# Altium integrated library NSC Interface.IntLib: 481 symbols (part 15 of 16)
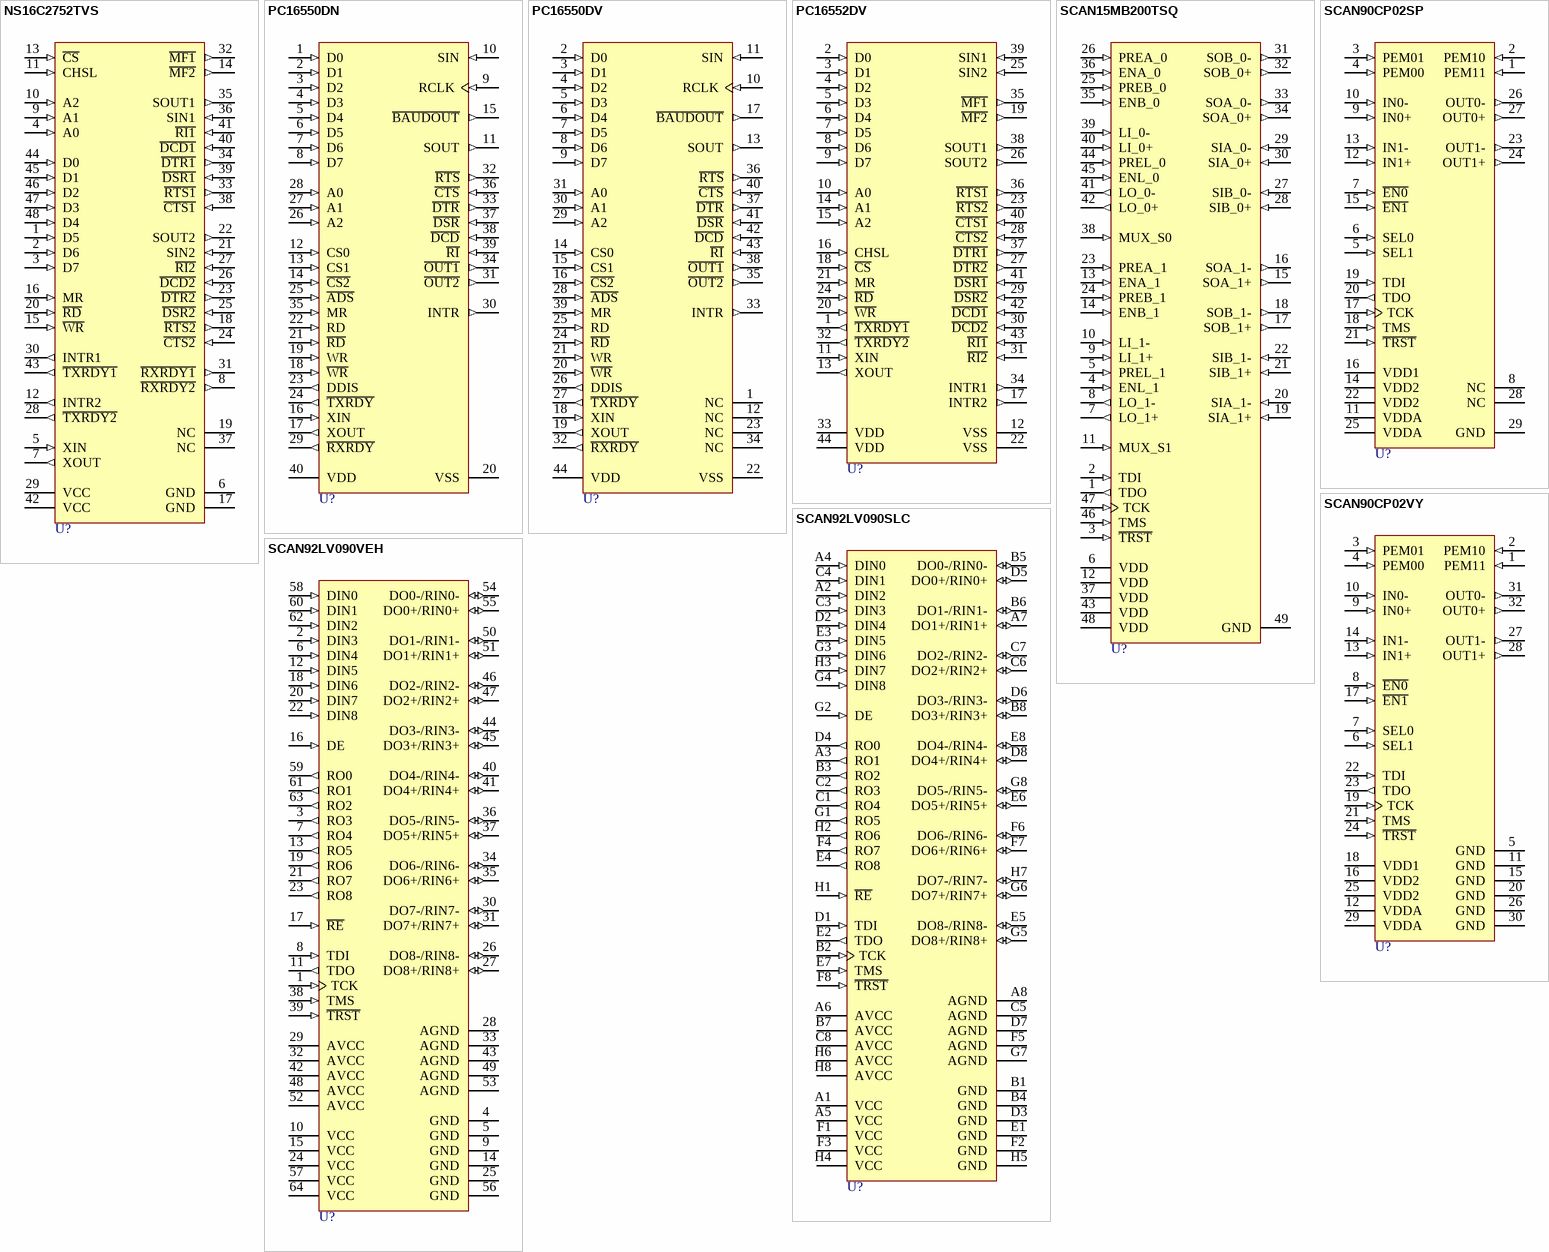
[diagram p54: symbols NS16C2752TVS to SCAN92LV090VEH]

## NS16C2752TVS
designator U?
Dual UART with 16-byte/64-byte FIFO's and up to 5 Mbit/s Data Rate; PartNumber: NS16C2752TVS; Manufacturer: National Semiconductor; CompType: Interface IC; PackageTopMarking: NSUZXYTT*NS16C2*752TVS; Published: 4-Dec-2008; DatasheetVersion: Dec-2006; PackageVersion: revA, Apr-2000; PackageReference: VBC48A; Publisher: Altium Limited; PackageDescription: TQFP, Jedec Metric, 7 x 7 x 1mm, 48 Lead, 0.5mm Pitch; RoHS: O; PinCount: 48; Code_JEDEC: MS-026-ABC; ComponentLink1Description: NS16C2752 Datasheet; ComponentLink1URL: http://www.national.com/ds/NS/NS16C2752.pdf; ComponentLink2Description: NS16C2752 Web Page; ComponentLink2URL: http://www.national.com/pf/NS/NS16C2752.html; ComponentLink3Description: VBC48A Package Page; ComponentLink3URL: http://www.national.com/packaging/folders/vbc48a.html
footprint VBC48A_N (Thin QFP, 48-Leads, Body 7x7mm, Pitch 0.5mm, IPC Medium Density)
footprint VBC48A_L (Thin QFP, 48-Leads, Body 7x7mm, Pitch 0.5mm, IPC High Density)
footprint VBC48A_M (Thin QFP, 48-Leads, Body 7x7mm, Pitch 0.5mm, IPC Low Density)
pins: 1 D5 (in), 2 D6 (in), 3 D7 (in), 4 A0 (in), 5 XIN (in), 6 GND (power), 7 XOUT (out), 8 ~{RXRDY2} (out), 9 A1 (in), 10 A2 (in), 11 CHSL (in), 12 INTR2 (out), 13 ~{CS} (in), 14 ~{MF2} (out), 15 ~{WR} (in), 16 MR (in), 17 GND (power), 18 ~{RTS2} (out), 19 NC, 20 ~{RD} (in), 21 SIN2 (in), 22 SOUT2 (out), 23 ~{DTR2} (out), 24 ~{CTS2} (in), 25 ~{DSR2} (in), 26 ~{DCD2} (in), 27 ~{RI2} (in), 28 ~{TXRDY2} (out), 29 VCC (power), 30 INTR1 (out), 31 ~{RXRDY1} (out), 32 ~{MF1} (out), 33 ~{RTS1} (out), 34 ~{DTR1} (out), 35 SOUT1 (out), 36 SIN1 (in), 37 NC, 38 ~{CTS1} (in), 39 ~{DSR1} (in), 40 ~{DCD1} (in), 41 ~{RI1} (in), 42 VCC (power), 43 ~{TXRDY1} (out), 44 D0 (in), 45 D1 (in), 46 D2 (in), 47 D3 (in), 48 D4 (in)

## PC16550DN
designator U?
Universal Asynchronous Receiver/Transmitter with FIFO's; PartNumber: PC16550DN; Manufacturer: National Semiconductor; CompType: Interface IC; PackageTopMarking: NSUZXYYTTE#*PC16550DN*PATENTED; Published: 4-Dec-2008; DatasheetVersion: Jun-1995; PackageVersion: revE, Nov-1983; PackageReference: N40A; Publisher: Altium Limited; PackageDescription: 40 Lead Molded Dip (N); RoHS: Y; PinCount: 40; DigiKeyPartNumber: PC16550DN-ND; ComponentLink1Description: PC16550D Datasheet; ComponentLink1URL: http://www.national.com/ds/PC/PC16550D.pdf; ComponentLink2Description: PC16550D Web Page; ComponentLink2URL: http://www.national.com/pf/PC/PC16550D.html; ComponentLink3Description: N40A Package Page; ComponentLink3URL: http://www.national.com/packaging/folders/n40a.html
footprint N40A (DIP, 40-Leads, Row Spacing 15.24mm, Pitch 2.54mm, Body 52.24x13.97mm)
pins: 1 D0 (in), 2 D1 (in), 3 D2 (in), 4 D3 (in), 5 D4 (in), 6 D5 (in), 7 D6 (in), 8 D7 (in), 9 RCLK (in), 10 SIN (in), 11 SOUT (out), 12 CS0 (in), 13 CS1 (in), 14 ~{CS2} (in), 15 ~{BAUDOUT} (out), 16 XIN (in), 17 XOUT (out), 18 ~{WR} (in), 19 WR (in), 20 VSS (power), 21 ~{RD} (in), 22 RD (in), 23 DDIS (out), 24 ~{TXRDY} (out), 25 ~{ADS} (in), 26 A2 (in), 27 A1 (in), 28 A0 (in), 29 ~{RXRDY} (out), 30 INTR (out), 31 ~{OUT2} (out), 32 ~{RTS} (out), 33 ~{DTR} (out), 34 ~{OUT1} (out), 35 MR (in), 36 ~{CTS} (in), 37 ~{DSR} (in), 38 ~{DCD} (in), 39 ~{RI} (in), 40 VDD (power)

## PC16550DV
designator U?
Universal Asynchronous Receiver/Transmitter with FIFO's; PartNumber: PC16550DV; Manufacturer: National Semiconductor; CompType: Interface IC; PackageTopMarking: NSUZXYYTTE#*PC16550DV*PATENTED; Published: 4-Dec-2008; DatasheetVersion: Jun-1995; PackageVersion: revK, Dec-1993; PackageReference: V44A; Publisher: Altium Limited; PackageDescription: Plastic Chip Carrier, Sq., .050mil Lead Pitch, 44 Lead; RoHS: O; PinCount: 44; DigiKeyPartNumber: PC16550DV-ND; Code_IPC: PLCC-44; ComponentLink1Description: PC16550D Datasheet; ComponentLink1URL: http://www.national.com/ds/PC/PC16550D.pdf; ComponentLink2Description: PC16550D Web Page; ComponentLink2URL: http://www.national.com/pf/PC/PC16550D.html; ComponentLink3Description: V44A Package Page; ComponentLink3URL: http://www.national.com/packaging/folders/v44a.html
footprint V44A_N (Leaded Chip Carrier, 44-Leads, Body 16.6x16.6mm, Pitch 1.27mm, IPC Medium Density)
footprint V44A_L (Leaded Chip Carrier, 44-Leads, Body 16.6x16.6mm, Pitch 1.27mm, IPC High Density)
footprint V44A_M (Leaded Chip Carrier, 44-Leads, Body 16.6x16.6mm, Pitch 1.27mm, IPC Low Density)
pins: 1 NC, 2 D0 (in), 3 D1 (in), 4 D2 (in), 5 D3 (in), 6 D4 (in), 7 D5 (in), 8 D6 (in), 9 D7 (in), 10 RCLK (in), 11 SIN (in), 12 NC, 13 SOUT (out), 14 CS0 (in), 15 CS1 (in), 16 ~{CS2} (in), 17 ~{BAUDOUT} (out), 18 XIN (in), 19 XOUT (out), 20 ~{WR} (in), 21 WR (in), 22 VSS (power), 23 NC, 24 ~{RD} (in), 25 RD (in), 26 DDIS (out), 27 ~{TXRDY} (out), 28 ~{ADS} (in), 29 A2 (in), 30 A1 (in), 31 A0 (in), 32 ~{RXRDY} (out), 33 INTR (out), 34 NC, 35 ~{OUT2} (out), 36 ~{RTS} (out), 37 ~{DTR} (out), 38 ~{OUT1} (out), 39 MR (in), 40 ~{CTS} (in), 41 ~{DSR} (in), 42 ~{DCD} (in), 43 ~{RI} (in), 44 VDD (power)

## PC16552DV
designator U?
Dual Universal Asynchronous Receiver/Transmitter with FIFO's; PartNumber: PC16552DV; Manufacturer: National Semiconductor; CompType: Interface IC; PackageTopMarking: NSUZXYYTTE#*PC16552DV; Published: 4-Dec-2008; DatasheetVersion: Jun-1995; PackageVersion: revK, Dec-1993; PackageReference: V44A; Publisher: Altium Limited; PackageDescription: Plastic Chip Carrier, Sq., .050mil Lead Pitch, 44 Lead; RoHS: O; PinCount: 44; DigiKeyPartNumber: PC16552DV-ND; Code_IPC: PLCC-44; ComponentLink1Description: PC16552D Datasheet; ComponentLink1URL: http://www.national.com/ds/PC/PC16552D.pdf; ComponentLink2Description: PC16552D Web Page; ComponentLink2URL: http://www.national.com/pf/PC/PC16552D.html; ComponentLink3Description: V44A Package Page; ComponentLink3URL: http://www.national.com/packaging/folders/v44a.html
footprint V44A_N (Leaded Chip Carrier, 44-Leads, Body 16.6x16.6mm, Pitch 1.27mm, IPC Medium Density)
footprint V44A_L (Leaded Chip Carrier, 44-Leads, Body 16.6x16.6mm, Pitch 1.27mm, IPC High Density)
footprint V44A_M (Leaded Chip Carrier, 44-Leads, Body 16.6x16.6mm, Pitch 1.27mm, IPC Low Density)
pins: 1 ~{TXRDY1} (out), 2 D0 (in), 3 D1 (in), 4 D2 (in), 5 D3 (in), 6 D4 (in), 7 D5 (in), 8 D6 (in), 9 D7 (in), 10 A0 (in), 11 XIN (in), 12 VSS (power), 13 XOUT (out), 14 A1 (in), 15 A2 (in), 16 CHSL (in), 17 INTR2 (out), 18 ~{CS} (in), 19 ~{MF2} (out), 20 ~{WR} (in), 21 MR (in), 22 VSS (power), 23 ~{RTS2} (out), 24 ~{RD} (in), 25 SIN2 (in), 26 SOUT2 (out), 27 ~{DTR2} (out), 28 ~{CTS2} (in), 29 ~{DSR2} (in), 30 ~{DCD2} (in), 31 ~{RI2} (in), 32 ~{TXRDY2} (out), 33 VDD (power), 34 INTR1 (out), 35 ~{MF1} (out), 36 ~{RTS1} (out), 37 ~{DTR1} (out), 38 SOUT1 (out), 39 SIN1 (in), 40 ~{CTS1} (in), 41 ~{DSR1} (in), 42 ~{DCD1} (in), 43 ~{RI1} (in), 44 VDD (power)

## SCAN15MB200TSQ
designator U?
Dual 1.5 Gbps 2:1/1:2 LVDS Mux/Buffer with Pre-Emphasis and IEEE 1149.6; PartNumber: SCAN15MB200TSQ; Manufacturer: National Semiconductor; CompType: Interface IC; PackageTopMarking: NS*UZXYTT*15MB200; Published: 4-Dec-2008; DatasheetVersion: May-2006; PackageVersion: revA, May-2003; PackageReference: SQA48A; Publisher: Altium Limited; PackageDescription: LLP, Plastic, Quad, 7 x 7 x 0.8mm Body, 48 Lead, 0.5mm Pitch, No Pullback; RoHS: Y; PinCount: 48; DigiKeyPartNumber: SCAN15MB200TSQTR-ND; Code_JEDEC: MO-220-WKKD-2; ComponentLink1Description: SCAN15MB200 Datasheet; ComponentLink1URL: http://www.national.com/ds/SC/SCAN15MB200.pdf; ComponentLink2Description: SCAN15MB200 Web Page; ComponentLink2URL: http://www.national.com/pf/SC/SCAN15MB200.html; ComponentLink3Description: SQA48A Package Page; ComponentLink3URL: http://www.national.com/packaging/folders/sqa48a.html
footprint SQA48A (QFN, 48-Leads, Body 7x7mm, Pitch 0.5mm, NSC Recommended)
pins: 1 TDO (out), 2 TDI (in), 3 ~{TRST} (in), 4 ENL_1 (in), 5 PREL_1 (in), 6 VDD (power), 7 LO_1+ (out), 8 LO_1- (out), 9 LI_1+ (in), 10 LI_1- (in), 11 MUX_S1 (in), 12 VDD (power), 13 ENA_1 (in), 14 ENB_1 (in), 15 SOA_1+ (out), 16 SOA_1- (out), 17 SOB_1+ (out), 18 SOB_1- (out), 19 SIA_1+ (in), 20 SIA_1- (in), 21 SIB_1+ (in), 22 SIB_1- (in), 23 PREA_1 (in), 24 PREB_1 (in), 25 PREB_0 (in), 26 PREA_0 (in), 27 SIB_0- (in), 28 SIB_0+ (in), 29 SIA_0- (in), 30 SIA_0+ (in), 31 SOB_0- (out), 32 SOB_0+ (out), 33 SOA_0- (out), 34 SOA_0+ (out), 35 ENB_0 (in), 36 ENA_0 (in), 37 VDD (power), 38 MUX_S0 (in), 39 LI_0- (in), 40 LI_0+ (in), 41 LO_0- (out), 42 LO_0+ (out), 43 VDD (power), 44 PREL_0 (in), 45 ENL_0 (in), 46 TMS (in), 47 TCK (in), 48 VDD (power), 49 GND (power)

## SCAN90CP02SP
designator U?
1.5 Gbps 2x2 LVDS Crosspoint Switch with Pre-Emphasis and IEEE 1149.6; PartNumber: SCAN90CP02SP; Manufacturer: National Semiconductor; CompType: Interface IC; PackageTopMarking: NS*UZXYTT*SCP02SP; Published: 4-Dec-2008; DatasheetVersion: May-2007; PackageVersion: revA, Aug-2003; PackageReference: SPA28A; Publisher: Altium Limited; PackageDescription: LLP, Plastic, Quad, 5 x 5 x 0.6mm Body, 28 Lead, 0.5mm Pitch, No Pullback; RoHS: Y; PinCount: 28; DigiKeyPartNumber: SCAN90CP02SPTR-ND; Code_JEDEC: MO-220-WHHD-3; ComponentLink1Description: SCAN90CP02 Datasheet; ComponentLink1URL: http://www.national.com/ds/SC/SCAN90CP02.pdf; ComponentLink2Description: SCAN90CP02 Web Page; ComponentLink2URL: http://www.national.com/pf/SC/SCAN90CP02.html; ComponentLink3Description: SPA28A Package Page; ComponentLink3URL: http://www.national.com/packaging/folders/spa28a.html
footprint SPA28A (QFN, 28-Leads, Body 5x5mm, Pitch 0.5mm, NSC Recommended)
pins: 1 PEM11 (in), 2 PEM10 (in), 3 PEM01 (in), 4 PEM00 (in), 5 SEL1 (in), 6 SEL0 (in), 7 ~{EN0} (in), 8 NC, 9 IN0+ (in), 10 IN0- (in), 11 VDDA (power), 12 IN1+ (in), 13 IN1- (in), 14 VDD2 (power), 15 ~{EN1} (in), 16 VDD1 (power), 17 TCK (in), 18 TMS (in), 19 TDI (in), 20 TDO (out), 21 ~{TRST} (in), 22 VDD2 (power), 23 OUT1- (out), 24 OUT1+ (out), 25 VDDA (power), 26 OUT0- (out), 27 OUT0+ (out), 28 NC, 29 GND (power)

## SCAN90CP02VY
designator U?
1.5 Gbps 2x2 LVDS Crosspoint Switch with Pre-Emphasis and IEEE 1149.6; PartNumber: SCAN90CP02VY; Manufacturer: National Semiconductor; CompType: Interface IC; PackageTopMarking: NSUZXYTT*SCAN90*CP02VY; Published: 4-Dec-2008; DatasheetVersion: May-2007; PackageVersion: revE, Dec-1999; PackageReference: VBE32A; Publisher: Altium Limited; PackageDescription: LQFP, Jedec, Metric, 7 x 7 x 1.4mm, 32 Lead; RoHS: Y; PinCount: 32; DigiKeyPartNumber: SCAN90CP02VY-ND; ComponentLink1Description: SCAN90CP02 Datasheet; ComponentLink1URL: http://www.national.com/ds/SC/SCAN90CP02.pdf; ComponentLink2Description: SCAN90CP02 Web Page; ComponentLink2URL: http://www.national.com/pf/SC/SCAN90CP02.html; ComponentLink3Description: VBE32A Package Page; ComponentLink3URL: http://www.national.com/packaging/folders/vbe32a.html
footprint VBE32A_N (Thin QFP, 32-Leads, Body 7x7mm, Pitch 0.8mm, IPC Medium Density)
footprint VBE32A_L (Thin QFP, 32-Leads, Body 7x7mm, Pitch 0.8mm, IPC High Density)
footprint VBE32A_M (Thin QFP, 32-Leads, Body 7x7mm, Pitch 0.8mm, IPC Low Density)
pins: 1 PEM11 (in), 2 PEM10 (in), 3 PEM01 (in), 4 PEM00 (in), 5 GND (power), 6 SEL1 (in), 7 SEL0 (in), 8 ~{EN0} (in), 9 IN0+ (in), 10 IN0- (in), 11 GND (power), 12 VDDA (power), 13 IN1+ (in), 14 IN1- (in), 15 GND (power), 16 VDD2 (power), 17 ~{EN1} (in), 18 VDD1 (power), 19 TCK (in), 20 GND (power), 21 TMS (in), 22 TDI (in), 23 TDO (out), 24 ~{TRST} (in), 25 VDD2 (power), 26 GND (power), 27 OUT1- (out), 28 OUT1+ (out), 29 VDDA (power), 30 GND (power), 31 OUT0- (out), 32 OUT0+ (out)

## SCAN92LV090SLC
designator U?
9 Channel Bus LVDS Transceiver w/ Boundary SCAN; PartNumber: SCAN92LV090SLC; Manufacturer: National Semiconductor; CompType: Interface IC; PackageTopMarking: NSUZXYTT*SCAN92LV090*SLC; Published: 4-Dec-2008; DatasheetVersion: Dec-2006; PackageVersion: revC, Jan, 2003; PackageReference: SLC64A; Publisher: Altium Limited; PackageDescription: FBGA, Plastic, Laminated, 8 x 8 x 1.4mm, 64 Ball, 0.8mm Pitch; RoHS: O; PinCount: 64; DigiKeyPartNumber: SCAN92LV090SLC-ND; ComponentLink1Description: SCAN92LV090 Datasheet; ComponentLink1URL: http://www.national.com/ds/SC/SCAN92LV090.pdf; ComponentLink2Description: SCAN92LV090 Web Page; ComponentLink2URL: http://www.national.com/pf/SC/SCAN92LV090.html; ComponentLink3Description: SLC64A Package Page; ComponentLink3URL: http://www.national.com/packaging/folders/slc64a.html
footprint SLC64A (BGA, 64-Leads, Body 8x8mm, Pitch 0.8mm)
pins: A1 VCC (power), A2 DIN2 (in), A3 RO1 (out), A4 DIN0 (in), A5 VCC (power), A6 AVCC (power), A7 DO1+/RIN1+ (io), A8 AGND (power), B1 GND (power), B2 TCK (in), B3 RO2 (out), B4 GND (power), B5 DO0-/RIN0- (io), B6 DO1-/RIN1- (io), B7 AVCC (power), B8 DO3+/RIN3+ (io), C1 RO4 (out), C2 RO3 (out), C3 DIN3 (in), C4 DIN1 (in), C5 AGND (power), C6 DO2+/RIN2+ (io), C7 DO2-/RIN2- (io), C8 AVCC (power), D1 TDI (in), D2 DIN4 (in), D3 GND (power), D4 RO0 (out), D5 DO0+/RIN0+ (io), D6 DO3-/RIN3- (io), D7 AGND (power), D8 DO4+/RIN4+ (io), E1 GND (power), E2 TDO (out), E3 DIN5 (in), E4 RO8 (out), E5 DO8-/RIN8- (io), E6 DO5+/RIN5+ (io), E7 TMS (in), E8 DO4-/RIN4- (io), F1 VCC (power), F2 GND (power), F3 VCC (power), F4 RO7 (out), F5 AGND (power), F6 DO6-/RIN6- (io), F7 DO6+/RIN6+ (io), F8 ~{TRST} (in), G1 RO5 (out), G2 DE (in), G3 DIN6 (in), G4 DIN8 (in), G5 DO8+/RIN8+ (io), G6 DO7+/RIN7+ (io), G7 AGND (power), G8 DO5-/RIN5- (io), H1 ~{RE} (in), H2 RO6 (out), H3 DIN7 (in), H4 VCC (power), H5 GND (power), H6 AVCC (power), H7 DO7-/RIN7- (io), H8 AVCC (power)

## SCAN92LV090VEH
designator U?
9 Channel Bus LVDS Transceiver w/ Boundary SCAN; PartNumber: SCAN92LV090VEH; Manufacturer: National Semiconductor; CompType: Interface IC; PackageTopMarking: NSUZXYYTT*SCAN92LV090*VEH; Published: 4-Dec-2008; DatasheetVersion: Dec-2006; PackageVersion: revC, Dec-1999; PackageReference: VEH64A; Publisher: Altium Limited; PackageDescription: LQFP, Jedec, Metric, 10 x 10 x 1.4mm, 64 Lead; RoHS: Y; PinCount: 64; DigiKeyPartNumber: SCAN92LV090VEH-ND; Code_JEDEC: MS-026-BCD; ComponentLink1Description: SCAN92LV090 Datasheet; ComponentLink1URL: http://www.national.com/ds/SC/SCAN92LV090.pdf; ComponentLink2Description: SCAN92LV090 Web Page; ComponentLink2URL: http://www.national.com/pf/SC/SCAN92LV090.html; ComponentLink3Description: VEH64A Package Page; ComponentLink3URL: http://www.national.com/packaging/folders/veh64a.html
footprint VEH64A_N (Thin QFP, 64-Leads, Body 10x10mm, Pitch 0.5mm, IPC Medium Density)
footprint VEH64A_L (Thin QFP, 64-Leads, Body 10x10mm, Pitch 0.5mm, IPC High Density)
footprint VEH64A_M (Thin QFP, 64-Leads, Body 10x10mm, Pitch 0.5mm, IPC Low Density)
pins: 1 TCK (in), 2 DIN3 (in), 3 RO3 (out), 4 GND (power), 5 GND (power), 6 DIN4 (in), 7 RO4 (out), 8 TDI (in), 9 GND (power), 10 VCC (power), 11 TDO (out), 12 DIN5 (in), 13 RO5 (out), 14 GND (power), 15 VCC (power), 16 DE (in), 17 ~{RE} (in), 18 DIN6 (in), 19 RO6 (out), 20 DIN7 (in), 21 RO7 (out), 22 DIN8 (in), 23 RO8 (out), 24 VCC (power), 25 GND (power), 26 DO8-/RIN8- (io), 27 DO8+/RIN8+ (io), 28 AGND (power), 29 AVCC (power), 30 DO7-/RIN7- (io), 31 DO7+/RIN7+ (io), 32 AVCC (power), 33 AGND (power), 34 DO6-/RIN6- (io), 35 DO6+/RIN6+ (io), 36 DO5-/RIN5- (io), 37 DO5+/RIN5+ (io), 38 TMS (in), 39 ~{TRST} (in), 40 DO4-/RIN4- (io), 41 DO4+/RIN4+ (io), 42 AVCC (power), 43 AGND (power), 44 DO3-/RIN3- (io), 45 DO3+/RIN3+ (io), 46 DO2-/RIN2- (io), 47 DO2+/RIN2+ (io), 48 AVCC (power), 49 AGND (power), 50 DO1-/RIN1- (io), 51 DO1+/RIN1+ (io), 52 AVCC (power), 53 AGND (power), 54 DO0-/RIN0- (io), 55 DO0+/RIN0+ (io), 56 GND (power), 57 VCC (power), 58 DIN0 (in), 59 RO0 (out), 60 DIN1 (in), 61 RO1 (out), 62 DIN2 (in), 63 RO2 (out), 64 VCC (power)

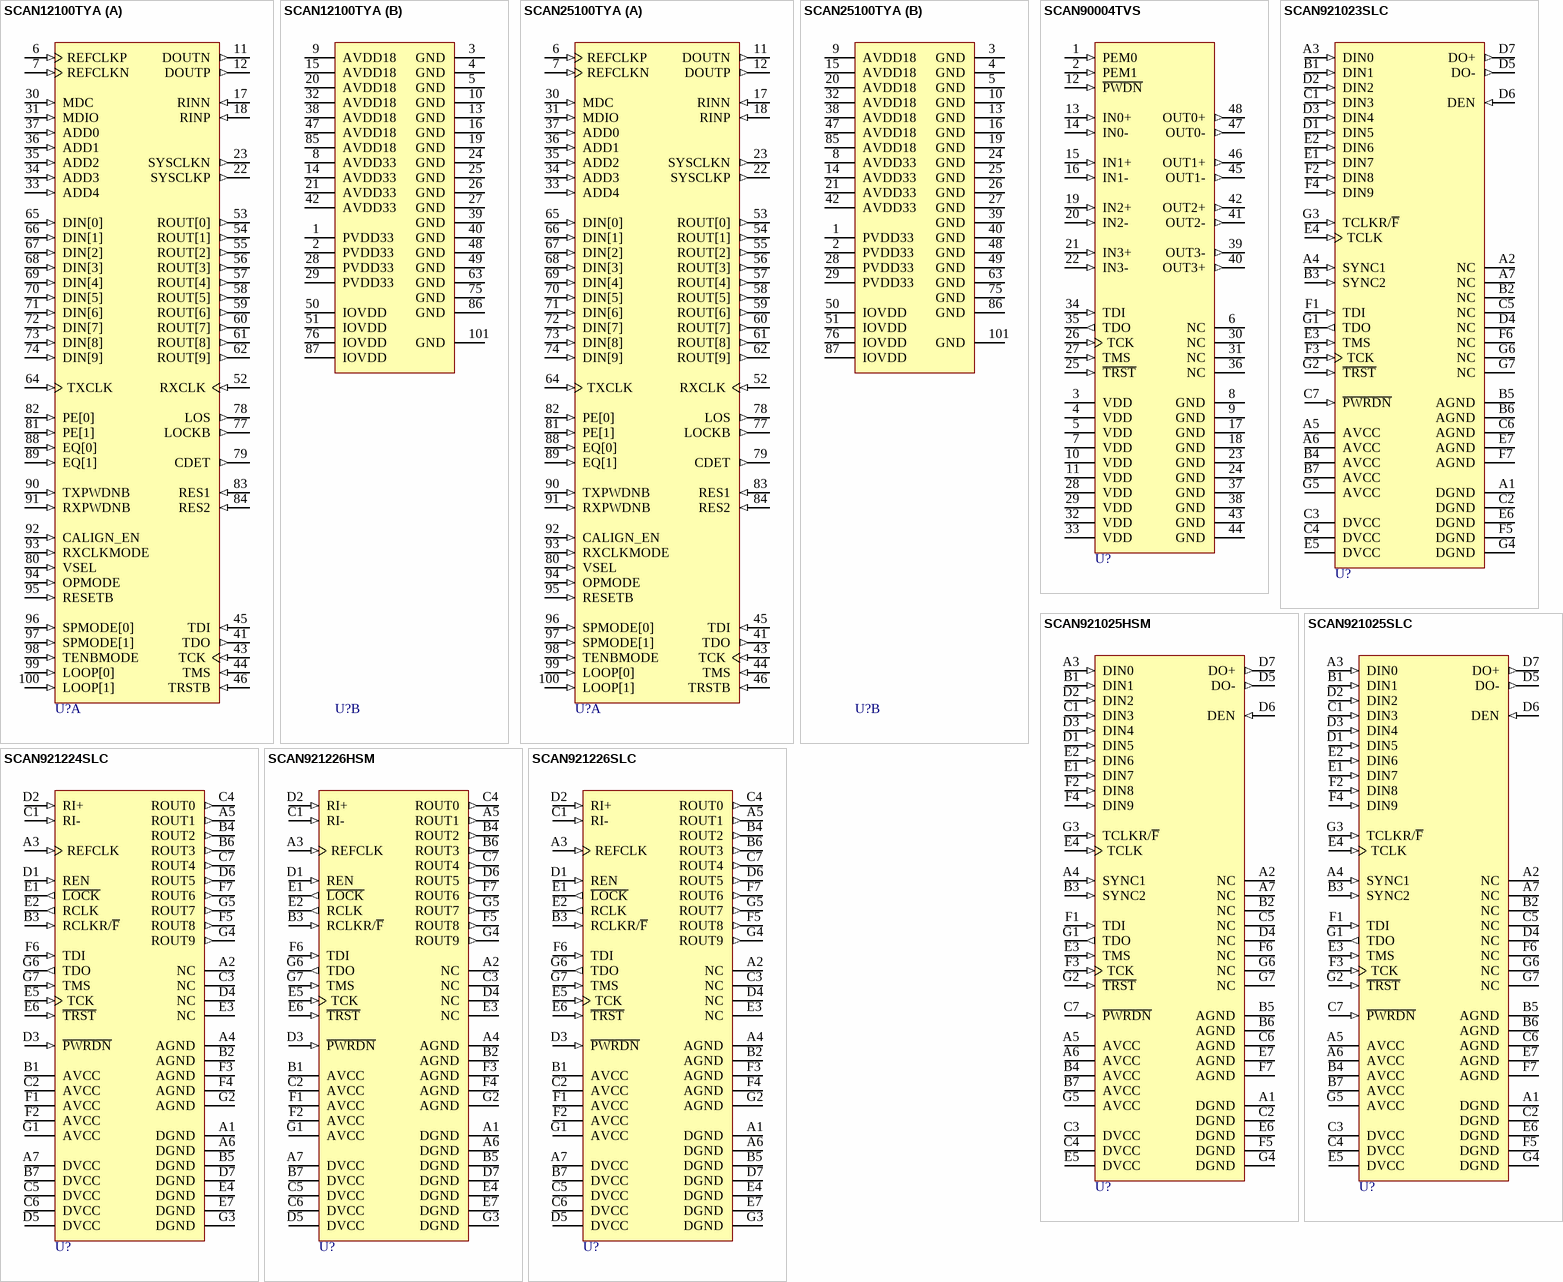
[diagram p37: symbols SCAN12100TYA to SCAN921226SLC]

## SCAN12100TYA
designator U?
1228.8 and 614.4 Mbps CPRI SerDes with Integrated 30.72 MHz Clocking and Precision Delay Calibration Measurement; PartNumber: SCAN12100TYA; Manufacturer: National Semiconductor; CompType: Interface IC; PackageTopMarking: NSUZXYYTT*SCAN12100TYA; Published: 4-Dec-2008; DatasheetVersion: Nov-2006; PackageVersion: revA, Jun-2005; PackageReference: VXF100B; Publisher: Altium Limited; PackageDescription: TQFP, 14 x 14 x 1mm, 100 Lead, 0.5mm Pitch, Exposed Pad, 6.5 x 6.5mm; RoHS: Y; PinCount: 100; DigiKeyPartNumber: SCAN12100TYA-ND; Code_JEDEC: MS-026-AED-HD; ComponentLink1Description: SCAN12100 Datasheet; ComponentLink1URL: http://www.national.com/ds/SC/SCAN12100.pdf; ComponentLink2Description: SCAN12100 Web Page; ComponentLink2URL: http://www.national.com/pf/SC/SCAN12100.html; ComponentLink3Description: VXF100B Package Page; ComponentLink3URL: http://www.national.com/packaging/folders/vxf100b.html
footprint VXF100B_N (Thin QFP, 100-Leads, Body 14x14mm, Pitch 0.5mm, Exposed Pad, IPC Medium Density)
footprint VXF100B_L (Thin QFP, 100-Leads, Body 14x14mm, Pitch 0.5mm, Exposed Pad, IPC High Density)
footprint VXF100B_M (Thin QFP, 100-Leads, Body 14x14mm, Pitch 0.5mm, Exposed Pad, IPC Low Density)
part A pins: 6 REFCLKP (in), 7 REFCLKN (in), 11 DOUTN (out), 12 DOUTP (out), 17 RINN (in), 18 RINP (in), 22 SYSCLKP (out), 23 SYSCLKN (out), 30 MDC (in), 31 MDIO (in), 33 ADD4 (in), 34 ADD3 (in), 35 ADD2 (in), 36 ADD1 (in), 37 ADD0 (in), 41 TDO (out), 43 TCK (in), 44 TMS (in), 45 TDI (in), 46 TRSTB (in), 52 RXCLK (in), 53 ROUT[0] (out), 54 ROUT[1] (out), 55 ROUT[2] (out), 56 ROUT[3] (out), 57 ROUT[4] (out), 58 ROUT[5] (out), 59 ROUT[6] (out), 60 ROUT[7] (out), 61 ROUT[8] (out), 62 ROUT[9] (out), 64 TXCLK (in), 65 DIN[0] (in), 66 DIN[1] (in), 67 DIN[2] (in), 68 DIN[3] (in), 69 DIN[4] (in), 70 DIN[5] (in), 71 DIN[6] (in), 72 DIN[7] (in), 73 DIN[8] (in), 74 DIN[9] (in), 77 LOCKB (out), 78 LOS (out), 79 CDET (out), 80 VSEL (in), 81 PE[1] (in), 82 PE[0] (in), 83 RES1 (in), 84 RES2 (in), 88 EQ[0] (in), 89 EQ[1] (in), 90 TXPWDNB (in), 91 RXPWDNB (in), 92 CALIGN_EN (in), 93 RXCLKMODE (in), 94 OPMODE (in), 95 RESETB (in), 96 SPMODE[0] (in), 97 SPMODE[1] (in), 98 TENBMODE (in), 99 LOOP[0] (in), 100 LOOP[1] (in)
part B pins: 1 PVDD33 (power), 2 PVDD33 (power), 3 GND (power), 4 GND (power), 5 GND (power), 8 AVDD33 (power), 9 AVDD18 (power), 10 GND (power), 13 GND (power), 14 AVDD33 (power), 15 AVDD18 (power), 16 GND (power), 19 GND (power), 20 AVDD18 (power), 21 AVDD33 (power), 24 GND (power), 25 GND (power), 26 GND (power), 27 GND (power), 28 PVDD33 (power), 29 PVDD33 (power), 32 AVDD18 (power), 38 AVDD18 (power), 39 GND (power), 40 GND (power), 42 AVDD33 (power), 47 AVDD18 (power), 48 GND (power), 49 GND (power), 50 IOVDD (power), 51 IOVDD (power), 63 GND (power), 75 GND (power), 76 IOVDD (power), 85 AVDD18 (power), 86 GND (power), 87 IOVDD (power), 101 GND (power)

## SCAN25100TYA
designator U?
2457.6, 1228.8, and 614.4 Mbps CPRI SerDes with Integrated 30.72 MHz Clocking and Precision Delay Calibration Measurement; PartNumber: SCAN25100TYA; Manufacturer: National Semiconductor; CompType: Interface IC; PackageTopMarking: NSUZXYYTT*SCAN25100TYA; Published: 4-Dec-2008; DatasheetVersion: Nov-2006; PackageVersion: revA, Jun-2005; PackageReference: VXF100B; Publisher: Altium Limited; PackageDescription: TQFP, 14 x 14 x 1mm, 100 Lead, 0.5mm Pitch, Exposed Pad, 6.5 x 6.5mm; RoHS: Y; PinCount: 100; DigiKeyPartNumber: SCAN25100TYA-ND; Code_JEDEC: MS-026-AED-HD; ComponentLink1Description: SCAN25100 Datasheet; ComponentLink1URL: http://www.national.com/ds/SC/SCAN25100.pdf; ComponentLink2Description: SCAN25100 Web Page; ComponentLink2URL: http://www.national.com/pf/SC/SCAN25100.html; ComponentLink3Description: VXF100B Package Page; ComponentLink3URL: http://www.national.com/packaging/folders/vxf100b.html
footprint VXF100B_N (Thin QFP, 100-Leads, Body 14x14mm, Pitch 0.5mm, Exposed Pad, IPC Medium Density)
footprint VXF100B_L (Thin QFP, 100-Leads, Body 14x14mm, Pitch 0.5mm, Exposed Pad, IPC High Density)
footprint VXF100B_M (Thin QFP, 100-Leads, Body 14x14mm, Pitch 0.5mm, Exposed Pad, IPC Low Density)
part A pins: 6 REFCLKP (in), 7 REFCLKN (in), 11 DOUTN (out), 12 DOUTP (out), 17 RINN (in), 18 RINP (in), 22 SYSCLKP (out), 23 SYSCLKN (out), 30 MDC (in), 31 MDIO (in), 33 ADD4 (in), 34 ADD3 (in), 35 ADD2 (in), 36 ADD1 (in), 37 ADD0 (in), 41 TDO (out), 43 TCK (in), 44 TMS (in), 45 TDI (in), 46 TRSTB (in), 52 RXCLK (in), 53 ROUT[0] (out), 54 ROUT[1] (out), 55 ROUT[2] (out), 56 ROUT[3] (out), 57 ROUT[4] (out), 58 ROUT[5] (out), 59 ROUT[6] (out), 60 ROUT[7] (out), 61 ROUT[8] (out), 62 ROUT[9] (out), 64 TXCLK (in), 65 DIN[0] (in), 66 DIN[1] (in), 67 DIN[2] (in), 68 DIN[3] (in), 69 DIN[4] (in), 70 DIN[5] (in), 71 DIN[6] (in), 72 DIN[7] (in), 73 DIN[8] (in), 74 DIN[9] (in), 77 LOCKB (out), 78 LOS (out), 79 CDET (out), 80 VSEL (in), 81 PE[1] (in), 82 PE[0] (in), 83 RES1 (in), 84 RES2 (in), 88 EQ[0] (in), 89 EQ[1] (in), 90 TXPWDNB (in), 91 RXPWDNB (in), 92 CALIGN_EN (in), 93 RXCLKMODE (in), 94 OPMODE (in), 95 RESETB (in), 96 SPMODE[0] (in), 97 SPMODE[1] (in), 98 TENBMODE (in), 99 LOOP[0] (in), 100 LOOP[1] (in)
part B pins: 1 PVDD33 (power), 2 PVDD33 (power), 3 GND (power), 4 GND (power), 5 GND (power), 8 AVDD33 (power), 9 AVDD18 (power), 10 GND (power), 13 GND (power), 14 AVDD33 (power), 15 AVDD18 (power), 16 GND (power), 19 GND (power), 20 AVDD18 (power), 21 AVDD33 (power), 24 GND (power), 25 GND (power), 26 GND (power), 27 GND (power), 28 PVDD33 (power), 29 PVDD33 (power), 32 AVDD18 (power), 38 AVDD18 (power), 39 GND (power), 40 GND (power), 42 AVDD33 (power), 47 AVDD18 (power), 48 GND (power), 49 GND (power), 50 IOVDD (power), 51 IOVDD (power), 63 GND (power), 75 GND (power), 76 IOVDD (power), 85 AVDD18 (power), 86 GND (power), 87 IOVDD (power), 101 GND (power)

## SCAN90004TVS
designator U?
Four-Channel LVDS Repeaters with Pre-Emphasis and IEEE 1149.6; PartNumber: SCAN90004TVS; Manufacturer: National Semiconductor; CompType: Interface IC; PackageTopMarking: NSUZXYTT*SCAN*90004TVS; Published: 4-Dec-2008; DatasheetVersion: May-2007; PackageVersion: revA, Apr-2000; PackageReference: VBC48A; Publisher: Altium Limited; PackageDescription: TQFP, Jedec Metric, 7 x 7 x 1mm, 48 Lead, 0.5mm Pitch; RoHS: Y; PinCount: 48; DigiKeyPartNumber: SCAN90004TVS-ND; Code_JEDEC: MS-026-ABC; ComponentLink1Description: SCAN90004 Datasheet; ComponentLink1URL: http://www.national.com/ds/SC/SCAN90004.pdf; ComponentLink2Description: SCAN90004 Web Page; ComponentLink2URL: http://www.national.com/pf/SC/SCAN90004.html; ComponentLink3Description: VBC48A Package Page; ComponentLink3URL: http://www.national.com/packaging/folders/vbc48a.html
footprint VBC48A_N (Thin QFP, 48-Leads, Body 7x7mm, Pitch 0.5mm, IPC Medium Density)
footprint VBC48A_L (Thin QFP, 48-Leads, Body 7x7mm, Pitch 0.5mm, IPC High Density)
footprint VBC48A_M (Thin QFP, 48-Leads, Body 7x7mm, Pitch 0.5mm, IPC Low Density)
pins: 1 PEM0 (in), 2 PEM1 (in), 3 VDD (power), 4 VDD (power), 5 VDD (power), 6 NC, 7 VDD (power), 8 GND (power), 9 GND (power), 10 VDD (power), 11 VDD (power), 12 ~{PWDN} (in), 13 IN0+ (in), 14 IN0- (in), 15 IN1+ (in), 16 IN1- (in), 17 GND (power), 18 GND (power), 19 IN2+ (in), 20 IN2- (in), 21 IN3+ (in), 22 IN3- (in), 23 GND (power), 24 GND (power), 25 ~{TRST} (in), 26 TCK (in), 27 TMS (in), 28 VDD (power), 29 VDD (power), 30 NC, 31 NC, 32 VDD (power), 33 VDD (power), 34 TDI (in), 35 TDO (out), 36 NC, 37 GND (power), 38 GND (power), 39 OUT3- (out), 40 OUT3+ (out), 41 OUT2- (out), 42 OUT2+ (out), 43 GND (power), 44 GND (power), 45 OUT1- (out), 46 OUT1+ (out), 47 OUT0- (out), 48 OUT0+ (out)

## SCAN921023SLC
designator U?
20 MHz-66MHz 10-Bit Serializer with IEEE 1149.1 Test Access; PartNumber: SCAN921023SLC; Manufacturer: National Semiconductor; CompType: Interface IC; PackageTopMarking: NSUZXYTT*SCAN921023*SLC; Published: 4-Dec-2008; DatasheetVersion: Apr-2001; PackageVersion: revB, Jan, 2003; PackageReference: SLC49A; Publisher: Altium Limited; PackageDescription: FBGA, Plastic, Laminated, 7 x 7 x 1.4mm Body, 49 Ball, 0.8mm Pitch; RoHS: O; PinCount: 49; DigiKeyPartNumber: SCAN921023SLC-ND; ComponentLink1Description: SCAN921023 Datasheet; ComponentLink1URL: http://www.national.com/ds/SC/SCAN921023.pdf; ComponentLink2Description: SCAN921023 Web Page; ComponentLink2URL: http://www.national.com/pf/SC/SCAN921023.html; ComponentLink3Description: SLC49A Package Page; ComponentLink3URL: http://www.national.com/packaging/folders/slc49a.html
footprint SLC49A (BGA, 49-Leads, Body 7x7mm, Pitch 0.8mm)
pins: A1 DGND (power), A2 NC, A3 DIN0 (in), A4 SYNC1 (in), A5 AVCC (power), A6 AVCC (power), A7 NC, B1 DIN1 (in), B2 NC, B3 SYNC2 (in), B4 AVCC (power), B5 AGND (power), B6 AGND (power), B7 AVCC (power), C1 DIN3 (in), C2 DGND (power), C3 DVCC (power), C4 DVCC (power), C5 NC, C6 AGND (power), C7 ~{PWRDN} (in), D1 DIN5 (in), D2 DIN2 (in), D3 DIN4 (in), D4 NC, D5 DO- (out), D6 DEN (in), D7 DO+ (out), E1 DIN7 (in), E2 DIN6 (in), E3 TMS (in), E4 TCLK (in), E5 DVCC (power), E6 DGND (power), E7 AGND (power), F1 TDI (in), F2 DIN8 (in), F3 TCK (in), F4 DIN9 (in), F5 DGND (power), F6 NC, F7 AGND (power), G1 TDO (out), G2 ~{TRST} (in), G3 TCLKR/~{F} (in), G4 DGND (power), G5 AVCC (power), G6 NC, G7 NC

## SCAN921025HSM
designator U?
High Temperature 20MHz - 80MHz 10-Bit Serializer with IEEE 1149.1 Test Access; PartNumber: SCAN921025HSM; Manufacturer: National Semiconductor; CompType: Interface IC; PackageTopMarking: NSUZXYTT*SCAN921025*HSM; Published: 4-Dec-2008; DatasheetVersion: Dec-2005; PackageVersion: revB, Jan, 2003; PackageReference: SLC49A; Publisher: Altium Limited; PackageDescription: FBGA, Plastic, Laminated, 7 x 7 x 1.4mm Body, 49 Ball, 0.8mm Pitch; RoHS: O; PinCount: 49; DigiKeyPartNumber: SCAN921025HSM-ND; ComponentLink1Description: SCAN921025H Datasheet; ComponentLink1URL: http://www.national.com/ds/SC/SCAN921025H.pdf; ComponentLink2Description: SCAN921025H Web Page; ComponentLink2URL: http://www.national.com/pf/SC/SCAN921025H.html; ComponentLink3Description: SLC49A Package Page; ComponentLink3URL: http://www.national.com/packaging/folders/slc49a.html
footprint SLC49A (BGA, 49-Leads, Body 7x7mm, Pitch 0.8mm)
pins: A1 DGND (power), A2 NC, A3 DIN0 (in), A4 SYNC1 (in), A5 AVCC (power), A6 AVCC (power), A7 NC, B1 DIN1 (in), B2 NC, B3 SYNC2 (in), B4 AVCC (power), B5 AGND (power), B6 AGND (power), B7 AVCC (power), C1 DIN3 (in), C2 DGND (power), C3 DVCC (power), C4 DVCC (power), C5 NC, C6 AGND (power), C7 ~{PWRDN} (in), D1 DIN5 (in), D2 DIN2 (in), D3 DIN4 (in), D4 NC, D5 DO- (out), D6 DEN (in), D7 DO+ (out), E1 DIN7 (in), E2 DIN6 (in), E3 TMS (in), E4 TCLK (in), E5 DVCC (power), E6 DGND (power), E7 AGND (power), F1 TDI (in), F2 DIN8 (in), F3 TCK (in), F4 DIN9 (in), F5 DGND (power), F6 NC, F7 AGND (power), G1 TDO (out), G2 ~{TRST} (in), G3 TCLKR/~{F} (in), G4 DGND (power), G5 AVCC (power), G6 NC, G7 NC

## SCAN921025SLC
designator U?
30MHz - 80MHz 10-Bit Serializer with IEEE 1149.1 Test Access; PartNumber: SCAN921025SLC; Manufacturer: National Semiconductor; CompType: Interface IC; PackageTopMarking: NSUZXYTT*SCAN921025*SLC; Published: 4-Dec-2008; DatasheetVersion: Dec-2001; PackageVersion: revB, Jan, 2003; PackageReference: SLC49A; Publisher: Altium Limited; PackageDescription: FBGA, Plastic, Laminated, 7 x 7 x 1.4mm Body, 49 Ball, 0.8mm Pitch; RoHS: Y; PinCount: 49; DigiKeyPartNumber: SCAN921025SLC-ND; ComponentLink1Description: SCAN921025 Datasheet; ComponentLink1URL: http://www.national.com/ds/SC/SCAN921025.pdf; ComponentLink2Description: SCAN921025 Web Page; ComponentLink2URL: http://www.national.com/pf/SC/SCAN921025.html; ComponentLink3Description: SLC49A Package Page; ComponentLink3URL: http://www.national.com/packaging/folders/slc49a.html
footprint SLC49A (BGA, 49-Leads, Body 7x7mm, Pitch 0.8mm)
pins: A1 DGND (power), A2 NC, A3 DIN0 (in), A4 SYNC1 (in), A5 AVCC (power), A6 AVCC (power), A7 NC, B1 DIN1 (in), B2 NC, B3 SYNC2 (in), B4 AVCC (power), B5 AGND (power), B6 AGND (power), B7 AVCC (power), C1 DIN3 (in), C2 DGND (power), C3 DVCC (power), C4 DVCC (power), C5 NC, C6 AGND (power), C7 ~{PWRDN} (in), D1 DIN5 (in), D2 DIN2 (in), D3 DIN4 (in), D4 NC, D5 DO- (out), D6 DEN (in), D7 DO+ (out), E1 DIN7 (in), E2 DIN6 (in), E3 TMS (in), E4 TCLK (in), E5 DVCC (power), E6 DGND (power), E7 AGND (power), F1 TDI (in), F2 DIN8 (in), F3 TCK (in), F4 DIN9 (in), F5 DGND (power), F6 NC, F7 AGND (power), G1 TDO (out), G2 ~{TRST} (in), G3 TCLKR/~{F} (in), G4 DGND (power), G5 AVCC (power), G6 NC, G7 NC

## SCAN921224SLC
designator U?
20 MHz-66MHz 10-Bit Deserializer with IEEE 1149.1 Test Access; PartNumber: SCAN921224SLC; Manufacturer: National Semiconductor; CompType: Interface IC; PackageTopMarking: NSUZXYTT*SCAN921224*SLC; Published: 4-Dec-2008; DatasheetVersion: Apr-2001; PackageVersion: revB, Jan, 2003; PackageReference: SLC49A; Publisher: Altium Limited; PackageDescription: FBGA, Plastic, Laminated, 7 x 7 x 1.4mm Body, 49 Ball, 0.8mm Pitch; RoHS: O; PinCount: 49; DigiKeyPartNumber: SCAN921224SLC-ND; ComponentLink1Description: SCAN921224 Datasheet; ComponentLink1URL: http://www.national.com/ds/SC/SCAN921224.pdf; ComponentLink2Description: SCAN921224 Web Page; ComponentLink2URL: http://www.national.com/pf/SC/SCAN921224.html; ComponentLink3Description: SLC49A Package Page; ComponentLink3URL: http://www.national.com/packaging/folders/slc49a.html
footprint SLC49A (BGA, 49-Leads, Body 7x7mm, Pitch 0.8mm)
pins: A1 DGND (power), A2 NC, A3 REFCLK (in), A4 AGND (power), A5 ROUT1 (out), A6 DGND (power), A7 DVCC (power), B1 AVCC (power), B2 AGND (power), B3 RCLKR/~{F} (in), B4 ROUT2 (out), B5 DGND (power), B6 ROUT3 (out), B7 DVCC (power), C1 RI- (in), C2 AVCC (power), C3 NC, C4 ROUT0 (out), C5 DVCC (power), C6 DVCC (power), C7 ROUT4 (out), D1 REN (in), D2 RI+ (in), D3 ~{PWRDN} (in), D4 NC, D5 DVCC (power), D6 ROUT5 (out), D7 DGND (power), E1 ~{LOCK} (out), E2 RCLK (out), E3 NC, E4 DGND (power), E5 TCK (in), E6 ~{TRST} (in), E7 DGND (power), F1 AVCC (power), F2 AVCC (power), F3 AGND (power), F4 AGND (power), F5 ROUT8 (out), F6 TDI (in), F7 ROUT6 (out), G1 AVCC (power), G2 AGND (power), G3 DGND (power), G4 ROUT9 (out), G5 ROUT7 (out), G6 TDO (out), G7 TMS (in)

## SCAN921226HSM
designator U?
High Temperature 20MHz - 80MHz 10-Bit Deserializer with IEEE 1149.1 Test Access; PartNumber: SCAN921226HSM; Manufacturer: National Semiconductor; CompType: Interface IC; PackageTopMarking: NSUZXYTT*SCAN921226*HSM; Published: 4-Dec-2008; DatasheetVersion: Dec-2005; PackageVersion: revB, Jan, 2003; PackageReference: SLC49A; Publisher: Altium Limited; PackageDescription: FBGA, Plastic, Laminated, 7 x 7 x 1.4mm Body, 49 Ball, 0.8mm Pitch; RoHS: Y; PinCount: 49; DigiKeyPartNumber: SCAN921226HSM-ND; ComponentLink1Description: SCAN921226H Datasheet; ComponentLink1URL: http://www.national.com/ds/SC/SCAN921226H.pdf; ComponentLink2Description: SCAN921226H Web Page; ComponentLink2URL: http://www.national.com/pf/SC/SCAN921226H.html; ComponentLink3Description: SLC49A Package Page; ComponentLink3URL: http://www.national.com/packaging/folders/slc49a.html
footprint SLC49A (BGA, 49-Leads, Body 7x7mm, Pitch 0.8mm)
pins: A1 DGND (power), A2 NC, A3 REFCLK (in), A4 AGND (power), A5 ROUT1 (out), A6 DGND (power), A7 DVCC (power), B1 AVCC (power), B2 AGND (power), B3 RCLKR/~{F} (in), B4 ROUT2 (out), B5 DGND (power), B6 ROUT3 (out), B7 DVCC (power), C1 RI- (in), C2 AVCC (power), C3 NC, C4 ROUT0 (out), C5 DVCC (power), C6 DVCC (power), C7 ROUT4 (out), D1 REN (in), D2 RI+ (in), D3 ~{PWRDN} (in), D4 NC, D5 DVCC (power), D6 ROUT5 (out), D7 DGND (power), E1 ~{LOCK} (out), E2 RCLK (out), E3 NC, E4 DGND (power), E5 TCK (in), E6 ~{TRST} (in), E7 DGND (power), F1 AVCC (power), F2 AVCC (power), F3 AGND (power), F4 AGND (power), F5 ROUT8 (out), F6 TDI (in), F7 ROUT6 (out), G1 AVCC (power), G2 AGND (power), G3 DGND (power), G4 ROUT9 (out), G5 ROUT7 (out), G6 TDO (out), G7 TMS (in)

## SCAN921226SLC
designator U?
30MHz - 80MHz 10-Bit Deserializer with IEEE 1149.1 Test Access; PartNumber: SCAN921226SLC; Manufacturer: National Semiconductor; CompType: Interface IC; PackageTopMarking: NSUZXYTT*SCAN921226*SLC; Published: 4-Dec-2008; DatasheetVersion: Dec-2001; PackageVersion: revB, Jan, 2003; PackageReference: SLC49A; Publisher: Altium Limited; PackageDescription: FBGA, Plastic, Laminated, 7 x 7 x 1.4mm Body, 49 Ball, 0.8mm Pitch; RoHS: O; PinCount: 49; DigiKeyPartNumber: SCAN921226SLC-ND; ComponentLink1Description: SCAN921226 Datasheet; ComponentLink1URL: http://www.national.com/ds/SC/SCAN921226.pdf; ComponentLink2Description: SCAN921226 Web Page; ComponentLink2URL: http://www.national.com/pf/SC/SCAN921226.html; ComponentLink3Description: SLC49A Package Page; ComponentLink3URL: http://www.national.com/packaging/folders/slc49a.html
footprint SLC49A (BGA, 49-Leads, Body 7x7mm, Pitch 0.8mm)
pins: A1 DGND (power), A2 NC, A3 REFCLK (in), A4 AGND (power), A5 ROUT1 (out), A6 DGND (power), A7 DVCC (power), B1 AVCC (power), B2 AGND (power), B3 RCLKR/~{F} (in), B4 ROUT2 (out), B5 DGND (power), B6 ROUT3 (out), B7 DVCC (power), C1 RI- (in), C2 AVCC (power), C3 NC, C4 ROUT0 (out), C5 DVCC (power), C6 DVCC (power), C7 ROUT4 (out), D1 REN (in), D2 RI+ (in), D3 ~{PWRDN} (in), D4 NC, D5 DVCC (power), D6 ROUT5 (out), D7 DGND (power), E1 ~{LOCK} (out), E2 RCLK (out), E3 NC, E4 DGND (power), E5 TCK (in), E6 ~{TRST} (in), E7 DGND (power), F1 AVCC (power), F2 AVCC (power), F3 AGND (power), F4 AGND (power), F5 ROUT8 (out), F6 TDI (in), F7 ROUT6 (out), G1 AVCC (power), G2 AGND (power), G3 DGND (power), G4 ROUT9 (out), G5 ROUT7 (out), G6 TDO (out), G7 TMS (in)

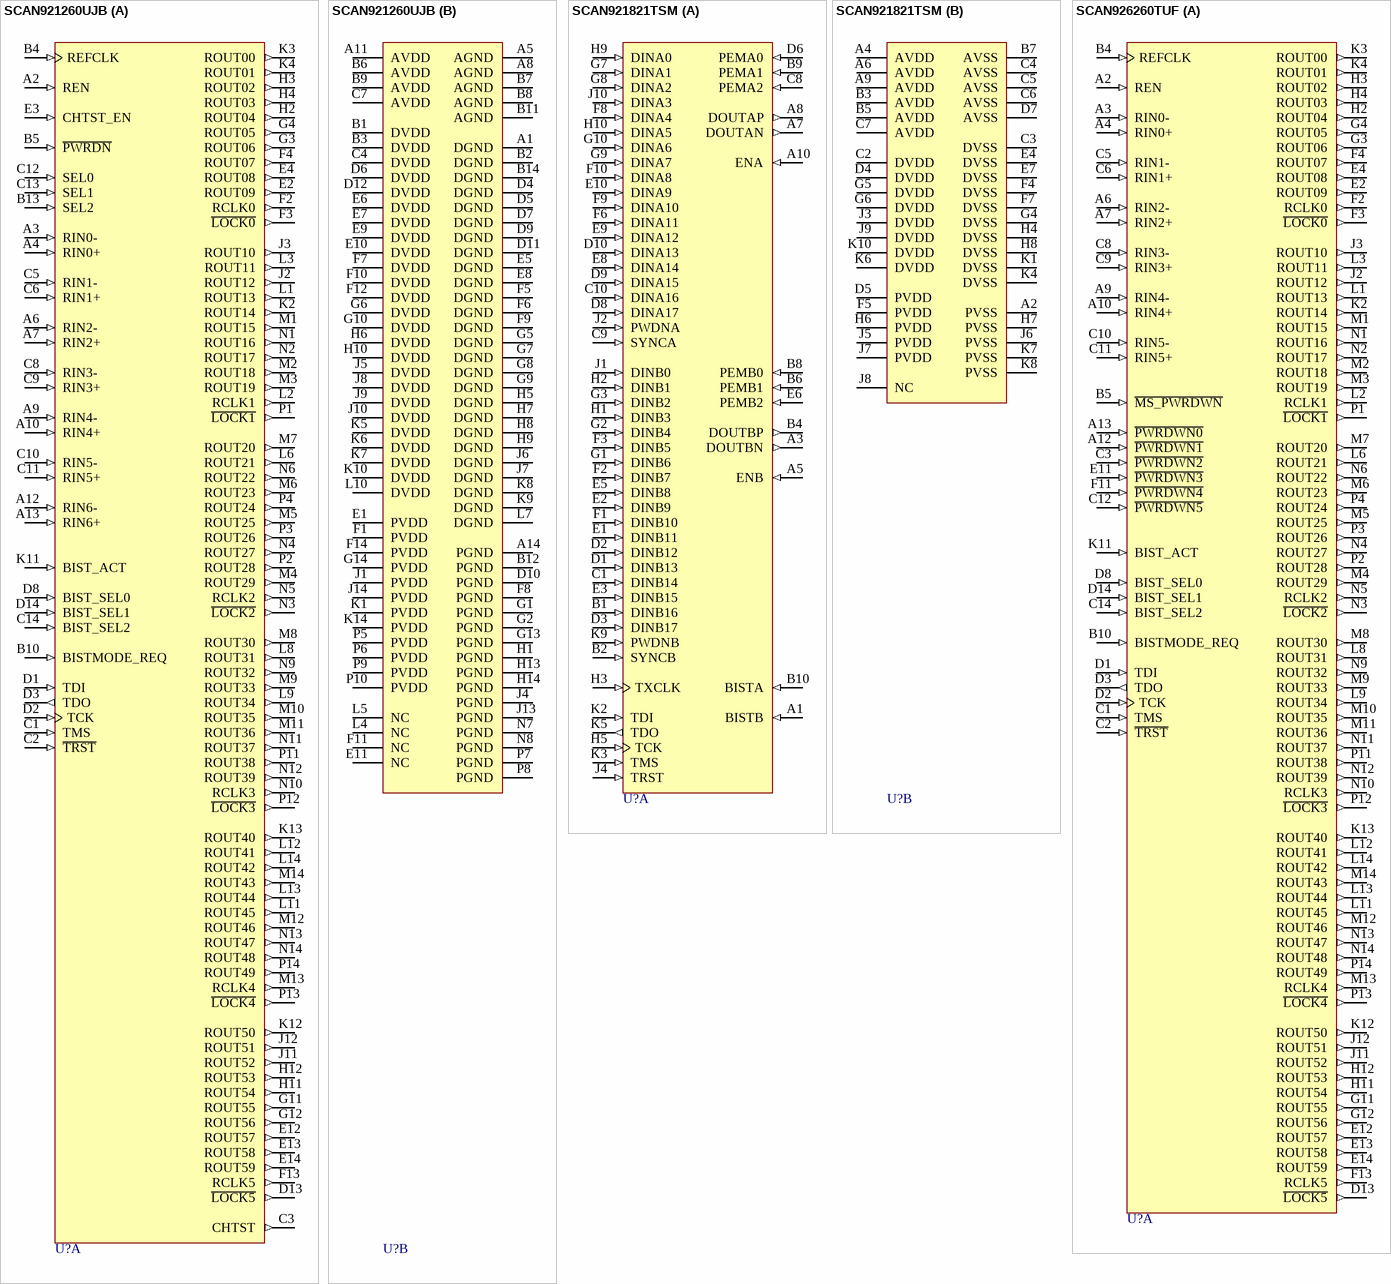
[diagram p38: symbols SCAN921260UJB to SCAN926260TUF]

## SCAN921260UJB
designator U?
six 1 to 10 deserializers with IEEE 1149.1 and at-speed BIST; PartNumber: SCAN921260UJB; Manufacturer: National Semiconductor; CompType: Interface IC; PackageTopMarking: NSUZXYYTT*SCAN921260*UJB; Published: 4-Dec-2008; DatasheetVersion: Jul-2004; PackageVersion: revC, Jul-2005; PackageReference: UJB196A; Publisher: Altium Limited; PackageDescription: LBGA, 15 x 15 x 1.37mm, 196 Ball, 1.0mm Pitch; RoHS: Y; PinCount: 196; DigiKeyPartNumber: SCAN921260UJB-ND; Code_JEDEC: MO-192-AAE-1; ComponentLink1Description: SCAN921260 Datasheet; ComponentLink1URL: http://www.national.com/ds/SC/SCAN921260.pdf; ComponentLink2Description: SCAN921260 Web Page; ComponentLink2URL: http://www.national.com/pf/SC/SCAN921260.html; ComponentLink3Description: UJB196A Package Page; ComponentLink3URL: http://www.national.com/packaging/folders/ujb196a.html
footprint UJB196A (BGA, 196-Leads, Body 15x15mm, Pitch 1mm)
part A pins: A2 REN (in), A3 RIN0- (in), A4 RIN0+ (in), A6 RIN2- (in), A7 RIN2+ (in), A9 RIN4- (in), A10 RIN4+ (in), A12 RIN6- (in), A13 RIN6+ (in), B4 REFCLK (in), B5 ~{PWRDN} (in), B10 BISTMODE_REQ (in), B13 SEL2 (in), C1 TMS (in), C2 ~{TRST} (in), C3 CHTST (out), C5 RIN1- (in), C6 RIN1+ (in), C8 RIN3- (in), C9 RIN3+ (in), C10 RIN5- (in), C11 RIN5+ (in), C12 SEL0 (in), C13 SEL1 (in), C14 BIST_SEL2 (in), D1 TDI (in), D2 TCK (in), D3 TDO (out), D8 BIST_SEL0 (in), D13 ~{LOCK5} (out), D14 BIST_SEL1 (in), E2 ROUT09 (out), E3 CHTST_EN (in), E4 ROUT08 (out), E12 ROUT57 (out), E13 ROUT58 (out), E14 ROUT59 (out), F2 RCLK0 (out), F3 ~{LOCK0} (out), F4 ROUT07 (out), F13 RCLK5 (out), G3 ROUT06 (out), G4 ROUT05 (out), G11 ROUT55 (out), G12 ROUT56 (out), H2 ROUT04 (out), H3 ROUT02 (out), H4 ROUT03 (out), H11 ROUT54 (out), H12 ROUT53 (out), J2 ROUT12 (out), J3 ROUT10 (out), J11 ROUT52 (out), J12 ROUT51 (out), K2 ROUT14 (out), K3 ROUT00 (out), K4 ROUT01 (out), K11 BIST_ACT (in), K12 ROUT50 (out), K13 ROUT40 (out), L1 ROUT13 (out), L2 RCLK1 (out), L3 ROUT11 (out), L6 ROUT21 (out), L8 ROUT31 (out), L9 ROUT34 (out), L11 ROUT45 (out), L12 ROUT41 (out), L13 ROUT44 (out), L14 ROUT42 (out), M1 ROUT15 (out), M2 ROUT18 (out), M3 ROUT19 (out), M4 ROUT29 (out), M5 ROUT25 (out), M6 ROUT23 (out), M7 ROUT20 (out), M8 ROUT30 (out), M9 ROUT33 (out), M10 ROUT35 (out), M11 ROUT36 (out), M12 ROUT46 (out), M13 RCLK4 (out), M14 ROUT43 (out), N1 ROUT16 (out), N2 ROUT17 (out), N3 ~{LOCK2} (out), N4 ROUT27 (out), N5 RCLK2 (out), N6 ROUT22 (out), N9 ROUT32 (out), N10 RCLK3 (out), N11 ROUT37 (out), N12 ROUT39 (out), N13 ROUT47 (out), N14 ROUT48 (out), P1 ~{LOCK1} (out), P2 ROUT28 (out), P3 ROUT26 (out), P4 ROUT24 (out), P11 ROUT38 (out), P12 ~{LOCK3} (out), P13 ~{LOCK4} (out), P14 ROUT49 (out)
part B pins: A1 DGND (power), A5 AGND (power), A8 AGND (power), A11 AVDD (power), A14 PGND (power), B1 DVDD (power), B2 DGND (power), B3 DVDD (power), B6 AVDD (power), B7 AGND (power), B8 AGND (power), B9 AVDD (power), B11 AGND (power), B12 PGND (power), B14 DGND (power), C4 DVDD (power), C7 AVDD (power), D4 DGND (power), D5 DGND (power), D6 DVDD (power), D7 DGND (power), D9 DGND (power), D10 PGND (power), D11 DGND (power), D12 DVDD (power), E1 PVDD (power), E5 DGND (power), E6 DVDD (power), E7 DVDD (power), E8 DGND (power), E9 DVDD (power), E10 DVDD (power), E11 NC, F1 PVDD (power), F5 DGND (power), F6 DGND (power), F7 DVDD (power), F8 PGND (power), F9 DGND (power), F10 DVDD (power), F11 NC, F12 DVDD (power), F14 PVDD (power), G1 PGND (power), G2 PGND (power), G5 DGND (power), G6 DVDD (power), G7 DGND (power), G8 DGND (power), G9 DGND (power), G10 DVDD (power), G13 PGND (power), G14 PVDD (power), H1 PGND (power), H5 DGND (power), H6 DVDD (power), H7 DGND (power), H8 DGND (power), H9 DGND (power), H10 DVDD (power), H13 PGND (power), H14 PGND (power), J1 PVDD (power), J4 PGND (power), J5 DVDD (power), J6 DGND (power), J7 DGND (power), J8 DVDD (power), J9 DVDD (power), J10 DVDD (power), J13 PGND (power), J14 PVDD (power), K1 PVDD (power), K5 DVDD (power), K6 DVDD (power), K7 DVDD (power), K8 DGND (power), K9 DGND (power), K10 DVDD (power), K14 PVDD (power), L4 NC, L5 NC, L7 DGND (power), L10 DVDD (power), N7 PGND (power), N8 PGND (power), P5 PVDD (power), P6 PVDD (power), P7 PGND (power), P8 PGND (power), P9 PVDD (power), P10 PVDD (power)

## SCAN921821TSM
designator U?
Dual 18-Bit Serializer with Pre-Emphasis, IEEE 1149.1 (JTAG), and At-Speed BIST; PartNumber: SCAN921821TSM; Manufacturer: National Semiconductor; CompType: Interface IC; PackageTopMarking: NSUZXYTT*SCAN921821*TSM; Published: 4-Dec-2008; DatasheetVersion: Nov-2004; PackageVersion: revB, Mar-1999; PackageReference: SLC100A; Publisher: Altium Limited; PackageDescription: FBGA, Plastic Laminated, .8mm Pitch, 10 x 10 x 1.4mm, 100 Ball; RoHS: O; PinCount: 100; DigiKeyPartNumber: SCAN921821TSM-ND; ComponentLink1Description: SCAN921821 Datasheet; ComponentLink1URL: http://www.national.com/ds/SC/SCAN921821.pdf; ComponentLink2Description: SCAN921821 Web Page; ComponentLink2URL: http://www.national.com/pf/SC/SCAN921821.html; ComponentLink3Description: SLC100A Package Page; ComponentLink3URL: http://www.national.com/packaging/folders/slc100a.html
footprint SLC100A (BGA, 100-Leads, Body 10x10mm, Pitch 0.8mm)
part A pins: A1 BISTB (in), A3 DOUTBN (out), A5 ENB (in), A7 DOUTAN (out), A8 DOUTAP (out), A10 ENA (in), B1 DINB16 (in), B2 SYNCB (in), B4 DOUTBP (out), B6 PEMB1 (in), B8 PEMB0 (in), B9 PEMA1 (in), B10 BISTA (in), C1 DINB14 (in), C8 PEMA2 (in), C9 SYNCA (in), C10 DINA16 (in), D1 DINB13 (in), D2 DINB12 (in), D3 DINB17 (in), D6 PEMA0 (in), D8 DINA17 (in), D9 DINA15 (in), D10 DINA13 (in), E1 DINB11 (in), E2 DINB9 (in), E3 DINB15 (in), E5 DINB8 (in), E6 PEMB2 (in), E8 DINA14 (in), E9 DINA12 (in), E10 DINA9 (in), F1 DINB10 (in), F2 DINB7 (in), F3 DINB5 (in), F6 DINA11 (in), F8 DINA4 (in), F9 DINA10 (in), F10 DINA8 (in), G1 DINB6 (in), G2 DINB4 (in), G3 DINB2 (in), G7 DINA1 (in), G8 DINA2 (in), G9 DINA7 (in), G10 DINA6 (in), H1 DINB3 (in), H2 DINB1 (in), H3 TXCLK (in), H5 TCK (in), H9 DINA0 (in), H10 DINA5 (in), J1 DINB0 (in), J2 PWDNA (in), J4 TRST (in), J10 DINA3 (in), K2 TDI (in), K3 TMS (in), K5 TDO (out), K9 PWDNB (in)
part B pins: A2 PVSS (power), A4 AVDD (power), A6 AVDD (power), A9 AVDD (power), B3 AVDD (power), B5 AVDD (power), B7 AVSS (power), C2 DVDD (power), C3 DVSS (power), C4 AVSS (power), C5 AVSS (power), C6 AVSS (power), C7 AVDD (power), D4 DVDD (power), D5 PVDD (power), D7 AVSS (power), E4 DVSS (power), E7 DVSS (power), F4 DVSS (power), F5 PVDD (power), F7 DVSS (power), G4 DVSS (power), G5 DVDD (power), G6 DVDD (power), H4 DVSS (power), H6 PVDD (power), H7 PVSS (power), H8 DVSS (power), J3 DVDD (power), J5 PVDD (power), J6 PVSS (power), J7 PVDD (power), J8 NC, J9 DVDD (power), K1 DVSS (power), K4 DVSS (power), K6 DVDD (power), K7 PVSS (power), K8 PVSS (power), K10 DVDD (power)

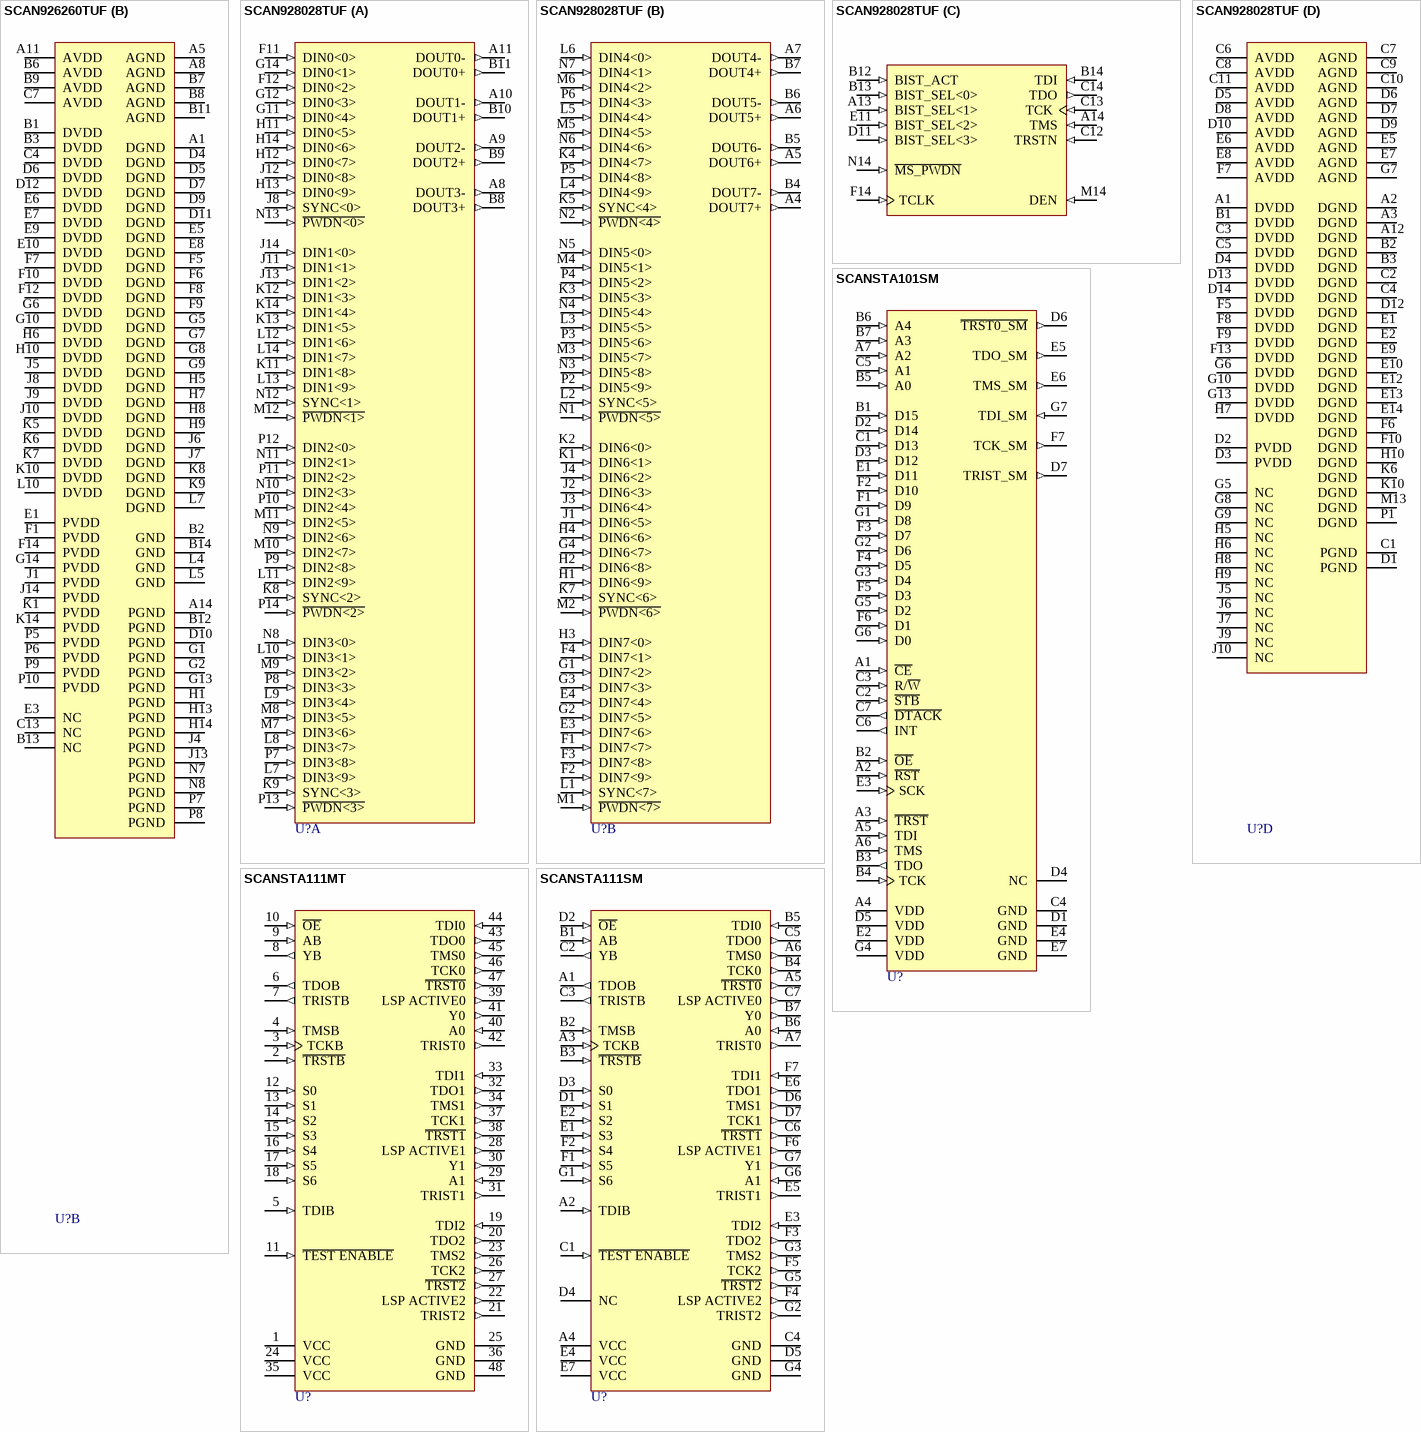
[diagram p39: symbols SCAN926260TUF to SCANSTA111SM]

## SCAN926260TUF
designator U?
Six 1 to 10 Bus LVDS Deserializers with IEEE 1149.1 and At-Speed BIST; PartNumber: SCAN926260TUF; Manufacturer: National Semiconductor; CompType: Interface IC; PackageTopMarking: NSUZXYYTT*SCAN926260T*UF*BBBBB; Published: 4-Dec-2008; DatasheetVersion: Mar-2008; PackageVersion: revC, Jul-2005; PackageReference: UJB196A; Publisher: Altium Limited; PackageDescription: LBGA, 15 x 15 x 1.37mm, 196 Ball, 1.0mm Pitch; RoHS: O; PinCount: 196; DigiKeyPartNumber: SCAN926260TUF-ND; Code_JEDEC: MO-192-AAE-1; ComponentLink1Description: SCAN926260 Datasheet; ComponentLink1URL: http://www.national.com/ds/SC/SCAN926260.pdf; ComponentLink2Description: SCAN926260 Web Page; ComponentLink2URL: http://www.national.com/pf/SC/SCAN926260.html; ComponentLink3Description: UJB196A Package Page; ComponentLink3URL: http://www.national.com/packaging/folders/ujb196a.html
footprint UJB196A (BGA, 196-Leads, Body 15x15mm, Pitch 1mm)
part A pins: A2 REN (in), A3 RIN0- (in), A4 RIN0+ (in), A6 RIN2- (in), A7 RIN2+ (in), A9 RIN4- (in), A10 RIN4+ (in), A12 ~{PWRDWN1} (in), A13 ~{PWRDWN0} (in), B4 REFCLK (in), B5 ~{MS_PWRDWN} (in), B10 BISTMODE_REQ (in), C1 TMS (in), C2 ~{TRST} (in), C3 ~{PWRDWN2} (in), C5 RIN1- (in), C6 RIN1+ (in), C8 RIN3- (in), C9 RIN3+ (in), C10 RIN5- (in), C11 RIN5+ (in), C12 ~{PWRDWN5} (in), C14 BIST_SEL2 (in), D1 TDI (in), D2 TCK (in), D3 TDO (out), D8 BIST_SEL0 (in), D13 ~{LOCK5} (out), D14 BIST_SEL1 (in), E2 ROUT09 (out), E4 ROUT08 (out), E11 ~{PWRDWN3} (in), E12 ROUT57 (out), E13 ROUT58 (out), E14 ROUT59 (out), F2 RCLK0 (out), F3 ~{LOCK0} (out), F4 ROUT07 (out), F11 ~{PWRDWN4} (in), F13 RCLK5 (out), G3 ROUT06 (out), G4 ROUT05 (out), G11 ROUT55 (out), G12 ROUT56 (out), H2 ROUT04 (out), H3 ROUT02 (out), H4 ROUT03 (out), H11 ROUT54 (out), H12 ROUT53 (out), J2 ROUT12 (out), J3 ROUT10 (out), J11 ROUT52 (out), J12 ROUT51 (out), K2 ROUT14 (out), K3 ROUT00 (out), K4 ROUT01 (out), K11 BIST_ACT (in), K12 ROUT50 (out), K13 ROUT40 (out), L1 ROUT13 (out), L2 RCLK1 (out), L3 ROUT11 (out), L6 ROUT21 (out), L8 ROUT31 (out), L9 ROUT34 (out), L11 ROUT45 (out), L12 ROUT41 (out), L13 ROUT44 (out), L14 ROUT42 (out), M1 ROUT15 (out), M2 ROUT18 (out), M3 ROUT19 (out), M4 ROUT29 (out), M5 ROUT25 (out), M6 ROUT23 (out), M7 ROUT20 (out), M8 ROUT30 (out), M9 ROUT33 (out), M10 ROUT35 (out), M11 ROUT36 (out), M12 ROUT46 (out), M13 RCLK4 (out), M14 ROUT43 (out), N1 ROUT16 (out), N2 ROUT17 (out), N3 ~{LOCK2} (out), N4 ROUT27 (out), N5 RCLK2 (out), N6 ROUT22 (out), N9 ROUT32 (out), N10 RCLK3 (out), N11 ROUT37 (out), N12 ROUT39 (out), N13 ROUT47 (out), N14 ROUT48 (out), P1 ~{LOCK1} (out), P2 ROUT28 (out), P3 ROUT26 (out), P4 ROUT24 (out), P11 ROUT38 (out), P12 ~{LOCK3} (out), P13 ~{LOCK4} (out), P14 ROUT49 (out)
part B pins: A1 DGND (power), A5 AGND (power), A8 AGND (power), A11 AVDD (power), A14 PGND (power), B1 DVDD (power), B2 GND (power), B3 DVDD (power), B6 AVDD (power), B7 AGND (power), B8 AGND (power), B9 AVDD (power), B11 AGND (power), B12 PGND (power), B13 NC, B14 GND (power), C4 DVDD (power), C7 AVDD (power), C13 NC, D4 DGND (power), D5 DGND (power), D6 DVDD (power), D7 DGND (power), D9 DGND (power), D10 PGND (power), D11 DGND (power), D12 DVDD (power), E1 PVDD (power), E3 NC, E5 DGND (power), E6 DVDD (power), E7 DVDD (power), E8 DGND (power), E9 DVDD (power), E10 DVDD (power), F1 PVDD (power), F5 DGND (power), F6 DGND (power), F7 DVDD (power), F8 DGND (power), F9 DGND (power), F10 DVDD (power), F12 DVDD (power), F14 PVDD (power), G1 PGND (power), G2 PGND (power), G5 DGND (power), G6 DVDD (power), G7 DGND (power), G8 DGND (power), G9 DGND (power), G10 DVDD (power), G13 PGND (power), G14 PVDD (power), H1 PGND (power), H5 DGND (power), H6 DVDD (power), H7 DGND (power), H8 DGND (power), H9 DGND (power), H10 DVDD (power), H13 PGND (power), H14 PGND (power), J1 PVDD (power), J4 PGND (power), J5 DVDD (power), J6 DGND (power), J7 DGND (power), J8 DVDD (power), J9 DVDD (power), J10 DVDD (power), J13 PGND (power), J14 PVDD (power), K1 PVDD (power), K5 DVDD (power), K6 DVDD (power), K7 DVDD (power), K8 DGND (power), K9 DGND (power), K10 DVDD (power), K14 PVDD (power), L4 GND (power), L5 GND (power), L7 DGND (power), L10 DVDD (power), N7 PGND (power), N8 PGND (power), P5 PVDD (power), P6 PVDD (power), P7 PGND (power), P8 PGND (power), P9 PVDD (power), P10 PVDD (power)

## SCAN928028TUF
designator U?
8 Channel 10:1 Serializer with IEEE 1149.1 and At-Speed BIST; PartNumber: SCAN928028TUF; Manufacturer: National Semiconductor; CompType: Interface IC; PackageTopMarking: NSUZXYYTT*SCAN928028T*UF*BBBBB; Published: 4-Dec-2008; DatasheetVersion: Sep-2003; PackageVersion: revC, Jul-2005; PackageReference: UJB196A; Publisher: Altium Limited; PackageDescription: LBGA, 15 x 15 x 1.37mm, 196 Ball, 1.0mm Pitch; RoHS: O; PinCount: 196; DigiKeyPartNumber: SCAN928028TUF-ND; Code_JEDEC: MO-192-AAE-1; ComponentLink1Description: SCAN928028 Datasheet; ComponentLink1URL: http://www.national.com/ds/SC/SCAN928028.pdf; ComponentLink2Description: SCAN928028 Web Page; ComponentLink2URL: http://www.national.com/pf/SC/SCAN928028.html; ComponentLink3Description: UJB196A Package Page; ComponentLink3URL: http://www.national.com/packaging/folders/ujb196a.html
footprint UJB196A (BGA, 196-Leads, Body 15x15mm, Pitch 1mm)
part A pins: A8 DOUT3- (out), A9 DOUT2- (out), A10 DOUT1- (out), A11 DOUT0- (out), B8 DOUT3+ (out), B9 DOUT2+ (out), B10 DOUT1+ (out), B11 DOUT0+ (out), F11 DIN0<0> (in), F12 DIN0<2> (in), G11 DIN0<4> (in), G12 DIN0<3> (in), G14 DIN0<1> (in), H11 DIN0<5> (in), H12 DIN0<7> (in), H13 DIN0<9> (in), H14 DIN0<6> (in), J8 SYNC<0> (in), J11 DIN1<1> (in), J12 DIN0<8> (in), J13 DIN1<2> (in), J14 DIN1<0> (in), K8 SYNC<2> (in), K9 SYNC<3> (in), K11 DIN1<8> (in), K12 DIN1<3> (in), K13 DIN1<5> (in), K14 DIN1<4> (in), L7 DIN3<9> (in), L8 DIN3<7> (in), L9 DIN3<4> (in), L10 DIN3<1> (in), L11 DIN2<9> (in), L12 DIN1<6> (in), L13 DIN1<9> (in), L14 DIN1<7> (in), M7 DIN3<6> (in), M8 DIN3<5> (in), M9 DIN3<2> (in), M10 DIN2<7> (in), M11 DIN2<5> (in), M12 ~{PWDN<1>} (in), N8 DIN3<0> (in), N9 DIN2<6> (in), N10 DIN2<3> (in), N11 DIN2<1> (in), N12 SYNC<1> (in), N13 ~{PWDN<0>} (in), P7 DIN3<8> (in), P8 DIN3<3> (in), P9 DIN2<8> (in), P10 DIN2<4> (in), P11 DIN2<2> (in), P12 DIN2<0> (in), P13 ~{PWDN<3>} (in), P14 ~{PWDN<2>} (in)
part B pins: A4 DOUT7+ (out), A5 DOUT6+ (out), A6 DOUT5+ (out), A7 DOUT4- (out), B4 DOUT7- (out), B5 DOUT6- (out), B6 DOUT5- (out), B7 DOUT4+ (out), E3 DIN7<6> (in), E4 DIN7<4> (in), F1 DIN7<7> (in), F2 DIN7<9> (in), F3 DIN7<8> (in), F4 DIN7<1> (in), G1 DIN7<2> (in), G2 DIN7<5> (in), G3 DIN7<3> (in), G4 DIN6<7> (in), H1 DIN6<9> (in), H2 DIN6<8> (in), H3 DIN7<0> (in), H4 DIN6<6> (in), J1 DIN6<5> (in), J2 DIN6<3> (in), J3 DIN6<4> (in), J4 DIN6<2> (in), K1 DIN6<1> (in), K2 DIN6<0> (in), K3 DIN5<3> (in), K4 DIN4<7> (in), K5 SYNC<4> (in), K7 SYNC<6> (in), L1 SYNC<7> (in), L2 SYNC<5> (in), L3 DIN5<5> (in), L4 DIN4<9> (in), L5 DIN4<4> (in), L6 DIN4<0> (in), M1 ~{PWDN<7>} (in), M2 ~{PWDN<6>} (in), M3 DIN5<7> (in), M4 DIN5<1> (in), M5 DIN4<5> (in), M6 DIN4<2> (in), N1 ~{PWDN<5>} (in), N2 ~{PWDN<4>} (in), N3 DIN5<8> (in), N4 DIN5<4> (in), N5 DIN5<0> (in), N6 DIN4<6> (in), N7 DIN4<1> (in), P2 DIN5<9> (in), P3 DIN5<6> (in), P4 DIN5<2> (in), P5 DIN4<8> (in), P6 DIN4<3> (in)
part C pins: A13 BIST_SEL<1> (in), A14 TMS (in), B12 BIST_ACT (in), B13 BIST_SEL<0> (in), B14 TDI (in), C12 TRSTN (in), C13 TCK (in), C14 TDO (out), D11 BIST_SEL<3> (in), E11 BIST_SEL<2> (in), F14 TCLK (in), M14 DEN (in), N14 ~{MS_PWDN} (in)
part D pins: A1 DVDD (power), A2 DGND (power), A3 DGND (power), A12 DGND (power), B1 DVDD (power), B2 DGND (power), B3 DGND (power), C1 PGND (power), C2 DGND (power), C3 DVDD (power), C4 DGND (power), C5 DVDD (power), C6 AVDD (power), C7 AGND (power), C8 AVDD (power), C9 AGND (power), C10 AGND (power), C11 AVDD (power), D1 PGND (power), D2 PVDD (power), D3 PVDD (power), D4 DVDD (power), D5 AVDD (power), D6 AGND (power), D7 AGND (power), D8 AVDD (power), D9 AGND (power), D10 AVDD (power), D12 DGND (power), D13 DVDD (power), D14 DVDD (power), E1 DGND (power), E2 DGND (power), E5 AGND (power), E6 AVDD (power), E7 AGND (power), E8 AVDD (power), E9 DGND (power), E10 DGND (power), E12 DGND (power), E13 DGND (power), E14 DGND (power), F5 DVDD (power), F6 DGND (power), F7 AVDD (power), F8 DVDD (power), F9 DVDD (power), F10 DGND (power), F13 DVDD (power), G5 NC, G6 DVDD (power), G7 AGND (power), G8 NC, G9 NC, G10 DVDD (power), G13 DVDD (power), H5 NC, H6 NC, H7 DVDD (power), H8 NC, H9 NC, H10 DGND (power), J5 NC, J6 NC, J7 NC, J9 NC, J10 NC, K6 DGND (power), K10 DGND (power), M13 DGND (power), P1 DGND (power)